# EAGLE library part M38B5X(80PIN) (library renesas_mcu)
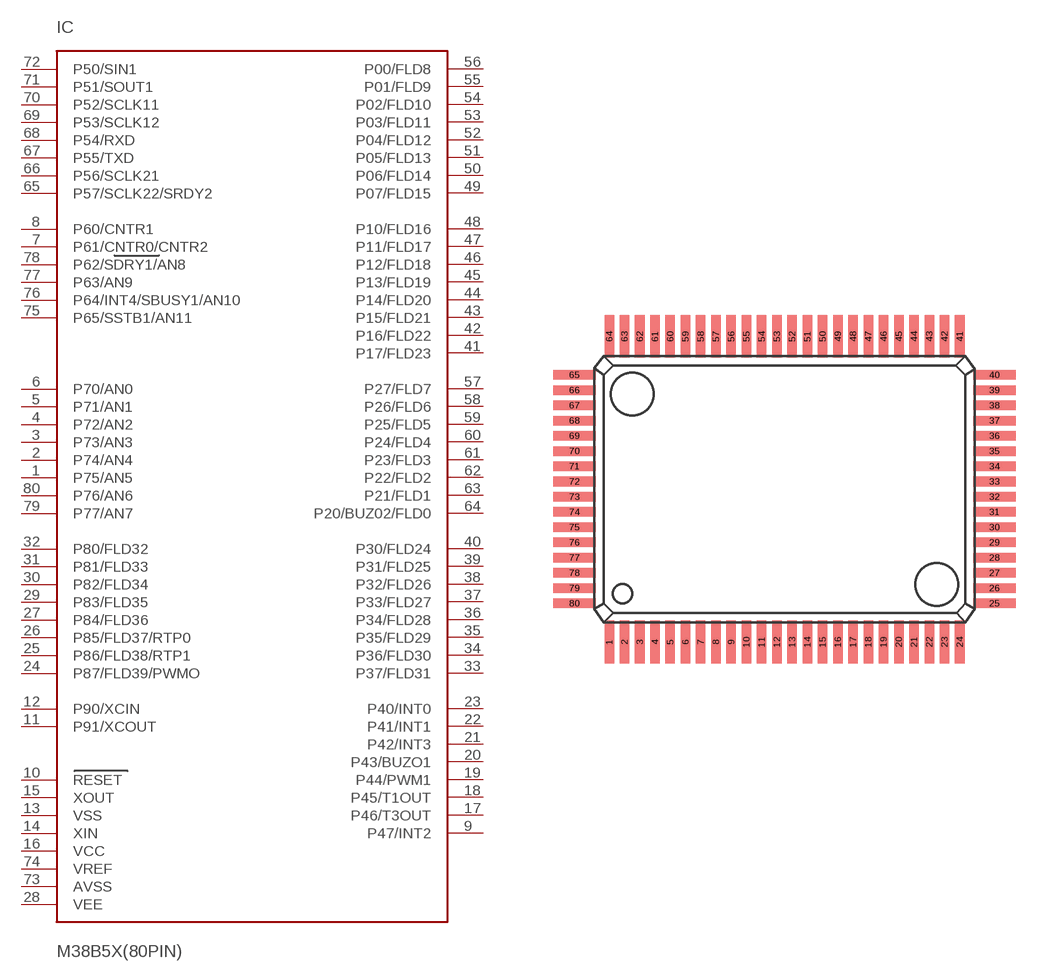
[diagram p71: symbol with the pads of 80P6N-A; footprint 80P6N-A]

Designator prefix IC

## M38B5X(80PIN)FP  [80P6N-A]
1  P75/AN5
2  P74/AN4
3  P73/AN3
4  P72/AN2
5  P71/AN1
6  P70/AN0
7  P61/CNTR0/CNTR2
8  P60/CNTR1
9  P47/INT2
10  RESET  in
11  P91/XCOUT
12  P90/XCIN
13  VSS  pwr
14  XIN  in
15  XOUT  out
16  VCC  pwr
17  P46/T3OUT
18  P45/T1OUT
19  P44/PWM1
20  P43/BUZO1
21  P42/INT3
22  P41/INT1
23  P40/INT0
24  P87/FLD39/PWMO
25  P86/FLD38/RTP1
26  P85/FLD37/RTP0
27  P84/FLD36
28  VEE
29  P83/FLD35  in
30  P82/FLD34
31  P81/FLD33
32  P80/FLD32
33  P37/FLD31
34  P36/FLD30
35  P35/FLD29
36  P34/FLD28
37  P33/FLD27
38  P32/FLD26
39  P31/FLD25
40  P30/FLD24
41  P17/FLD23
42  P16/FLD22
43  P15/FLD21
44  P14/FLD20
45  P13/FLD19
46  P12/FLD18
47  P11/FLD17
48  P10/FLD16
49  P07/FLD15
50  P06/FLD14
51  P05/FLD13
52  P04/FLD12
53  P03/FLD11
54  P02/FLD10
55  P01/FLD9
56  P00/FLD8
57  P27/FLD7
58  P26/FLD6
59  P25/FLD5
60  P24/FLD4
61  P23/FLD3
62  P22/FLD2
63  P21/FLD1
64  P20/BUZ02/FLD0
65  P57/SCLK22/SRDY2  out
66  P56/SCLK21  out
67  P55/TXD  out
68  P54/RXD  out
69  P53/SCLK12  out
70  P52/SCLK11  out
71  P51/SOUT1  out
72  P50/SIN1  out
73  AVSS  in
74  VREF  in
75  P65/SSTB1/AN11
76  P64/INT4/SBUSY1/AN10
77  P63/AN9
78  P62/SDRY1/AN8
79  P77/AN7
80  P76/AN6

## Footprint 80P6N-A (pad centres in mm)
smd 0.5 x 2.25: 1 -9.2,-8.025; 2 -8.4,-8.025; 3 -7.6,-8.025; 4 -6.8,-8.025; 5 -6,-8.025; 6 -5.2,-8.025; 7 -4.4,-8.025; 8 -3.6,-8.025; 9 -2.8,-8.025; 10 -2,-8.025; 11 -1.2,-8.025; 12 -0.4,-8.025; 13 0.4,-8.025; 14 1.2,-8.025; 15 2,-8.025; 16 2.8,-8.025; 17 3.6,-8.025; 18 4.4,-8.025; 19 5.2,-8.025; 20 6,-8.025; 21 6.8,-8.025; 22 7.6,-8.025; 23 8.4,-8.025; 24 9.2,-8.025; 41 9.2,8.025; 42 8.4,8.025; 43 7.6,8.025; 44 6.8,8.025; 45 6,8.025; 46 5.2,8.025; 47 4.4,8.025; 48 3.6,8.025; 49 2.8,8.025; 50 2,8.025; 51 1.2,8.025; 52 0.4,8.025; 53 -0.4,8.025; 54 -1.2,8.025; 55 -2,8.025; 56 -2.8,8.025; 57 -3.6,8.025; 58 -4.4,8.025; 59 -5.2,8.025; 60 -6,8.025; 61 -6.8,8.025; 62 -7.6,8.025; 63 -8.4,8.025; 64 -9.2,8.025
smd 2.25 x 0.5: 25 11.025,-6; 26 11.025,-5.2; 27 11.025,-4.4; 28 11.025,-3.6; 29 11.025,-2.8; 30 11.025,-2; 31 11.025,-1.2; 32 11.025,-0.4; 33 11.025,0.4; 34 11.025,1.2; 35 11.025,2; 36 11.025,2.8; 37 11.025,3.6; 38 11.025,4.4; 39 11.025,5.2; 40 11.025,6; 65 -11.025,6; 66 -11.025,5.2; 67 -11.025,4.4; 68 -11.025,3.6; 69 -11.025,2.8; 70 -11.025,2; 71 -11.025,1.2; 72 -11.025,0.4; 73 -11.025,-0.4; 74 -11.025,-1.2; 75 -11.025,-2; 76 -11.025,-2.8; 77 -11.025,-3.6; 78 -11.025,-4.4; 79 -11.025,-5.2; 80 -11.025,-6